# EAGLE library part JP_OPTOISO (library JoshParts)
Description: Dual gate opto isolator. Digikey part: TLP2160(TPF)CT-ND
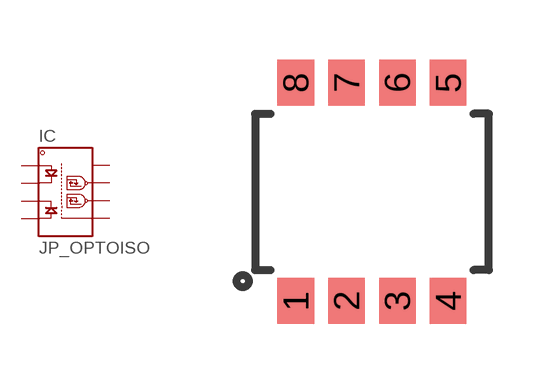
[diagram p1: symbol with the pads of SO08-2; footprint SO08-2]

Designator prefix IC

## JP_OPTOISOSOIC8 (PROD_ID: IC-09076)  [SO08-2]
1  A1
2  C1
3  C2
4  A2
5  GND
6  OUT2
7  OUT1
8  VCC

## Footprint SO08-2 (pad centres in mm)
smd 0.914 x 1.143: 1 -1.905,-2.731; 2 -0.635,-2.731; 3 0.635,-2.731; 4 1.905,-2.731; 5 1.905,2.731; 6 0.635,2.731; 7 -0.635,2.731; 8 -1.905,2.731